# EAGLE library part CC1120 (library misc)
IC RF TxRx + MCU General ISM 164MHz ~ 192MHz 274MHz ~ 320MHz 410MHz ~ 480MHz 820MHz ~ 960MHz 32-VFQFN Exposed Pad
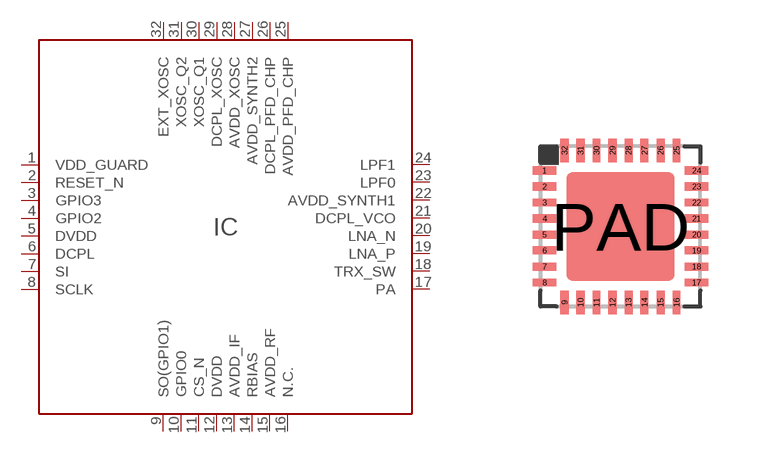
[diagram p80: symbol with the pads of QFN32(4X4); footprint QFN32(4X4)]

Designator prefix IC

## CC1120 (DIGIKEY#: 296-38009-6-ND; MANF: Texas Instruments; MANF#: CC1120RHBT)  [QFN32(4X4)]
1  VDD_GUARD  pwr
2  RESET_N  in
3  GPIO3
4  GPIO2
5  DVDD  pwr
6  DCPL  pwr
7  SI  in
8  SCLK  in
9  SO(GPIO1)
10  GPIO0
11  CS_N  in
12  DVDD  pwr
13  AVDD_IF  pwr
14  RBIAS
15  AVDD_RF  pwr
16  N.C.  nc
17  PA
18  TRX_SW
19  LNA_P
20  LNA_N
21  DCPL_VCO  pwr
22  AVDD_SYNTH1  pwr
23  LPF0
24  LPF1
25  AVDD_PFD_CHP  pwr
26  DCPL_PFD_CHP  pwr
27  AVDD_SYNTH2  pwr
28  AVDD_XOSC  pwr
29  DCPL_XOSC  pwr
30  XOSC_Q1
31  XOSC_Q2
32  EXT_XOSC  in

## Footprint QFN32(4X4) (pad centres in mm)
Drawing <https://www.renesas.com/us/en/document/psc/l324x4-32-lead-thin-quad-flat-no-lead-plastic-package>
smd 0.6 x 0.2: 1 -1.9,1.4; 2 -1.9,1; 3 -1.9,0.6; 4 -1.9,0.2; 5 -1.9,-0.2; 6 -1.9,-0.6; 7 -1.9,-1; 8 -1.9,-1.4; 17 1.9,-1.4; 18 1.9,-1; 19 1.9,-0.6; 20 1.9,-0.2; 21 1.9,0.2; 22 1.9,0.6; 23 1.9,1; 24 1.9,1.4
smd 0.2 x 0.6: 9 -1.4,-1.9; 10 -1,-1.9; 11 -0.6,-1.9; 12 -0.2,-1.9; 13 0.2,-1.9; 14 0.6,-1.9; 15 1,-1.9; 16 1.4,-1.9; 25 1.4,1.9; 26 1,1.9; 27 0.6,1.9; 28 0.2,1.9; 29 -0.2,1.9; 30 -0.6,1.9; 31 -1,1.9; 32 -1.4,1.9
smd 2.7 x 2.7: PAD 0,0